# Altium schematic symbol library Teensy_3_and_LC_Series_Boards_v1.SCHLIB: 22 symbols
Pins are listed as number, name and electrical type; pins without a type are passive.

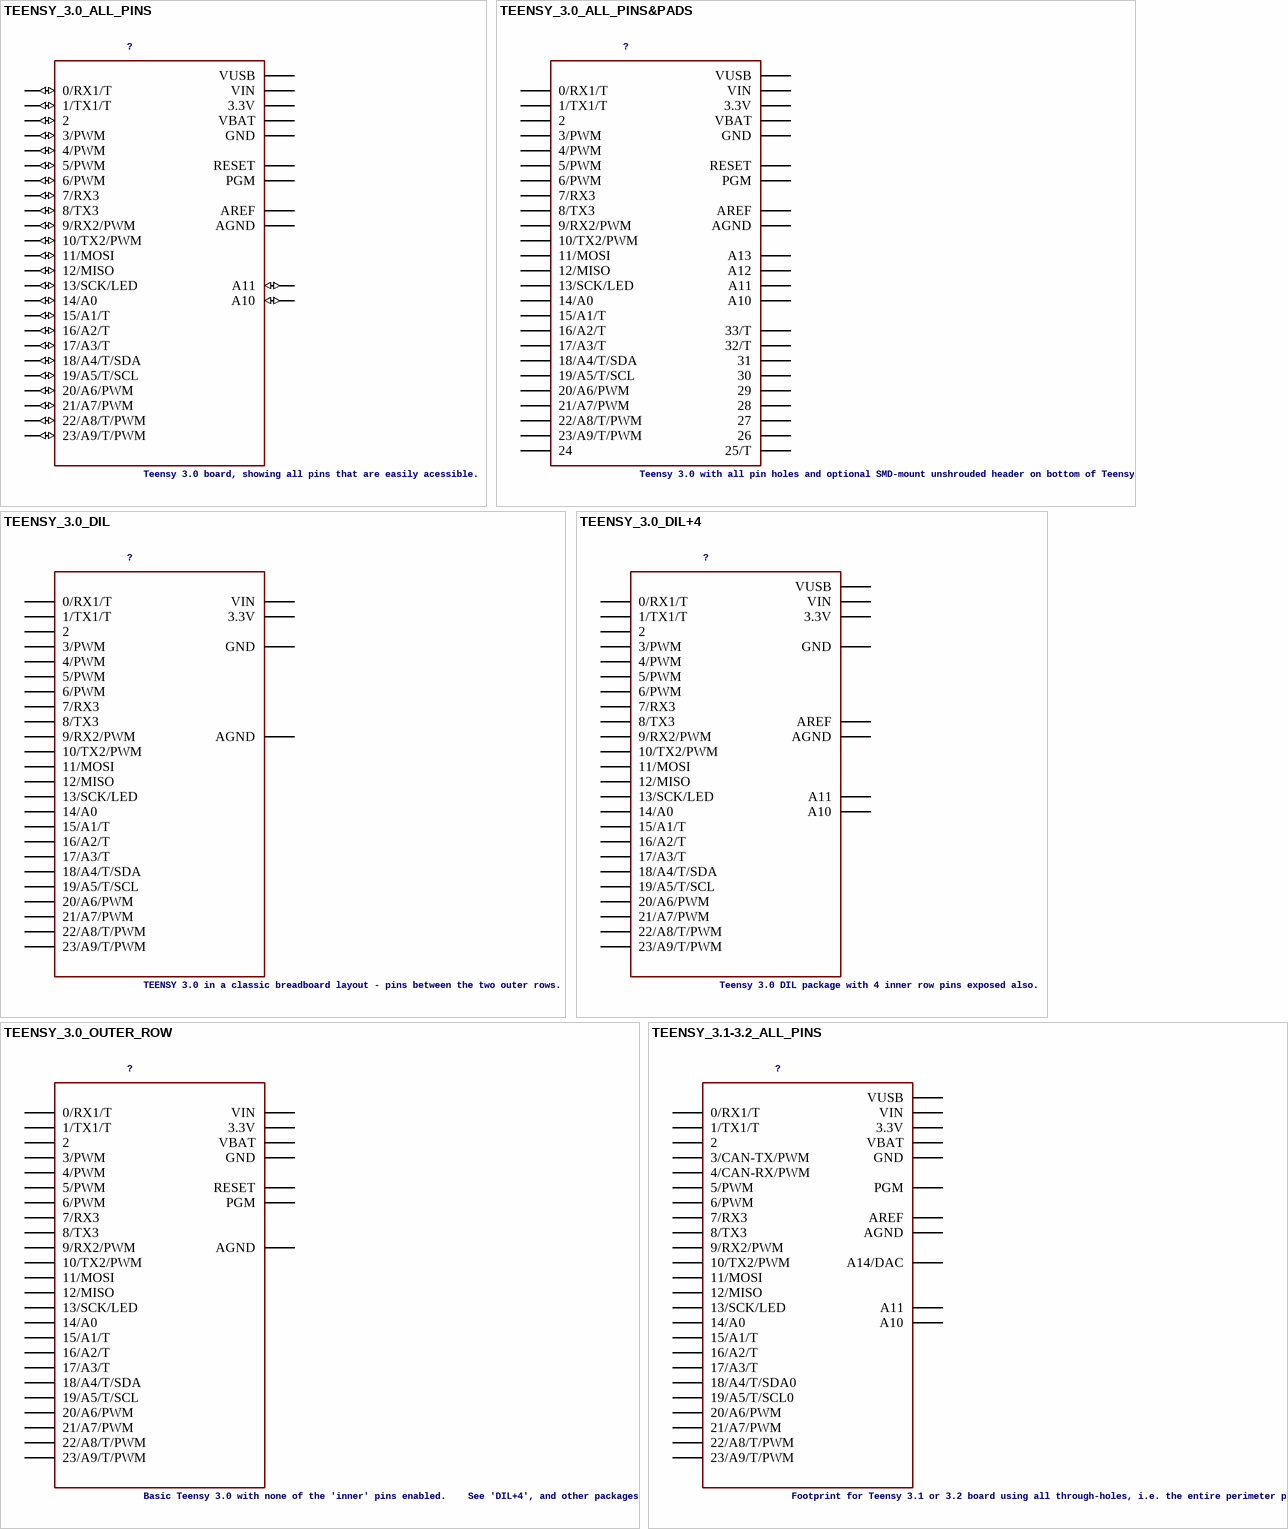
[diagram p0: symbols TEENSY_3.0_ALL_PINS to TEENSY_3.1-3.2_ALL_PINS]

## TEENSY_3.0_ALL_PINS
designator ?, comment Teensy 3.0 board, showing all pins that are easily acessible.
GateName_1: G$1; SymbolName_1: TEENSY_3.0_ALL_PINS; LibraryName: Teensy_3_and_LC_Series_Boards_v1.4; DeviceSetName: TEENSY_3.0_ALL_PINS
footprint TEENSY_3.0-3.2&LC_ALL_PINS
pins: 0 0/RX1/T (io), 1 1/TX1/T (io), 2 (io), 3 3/PWM (io), 3.3V 3.3V1 3.3V (power), 4 4/PWM (io), 5 5/PWM (io), 6 6/PWM (io), 7 7/RX3 (io), 8 8/TX3 (io), 9 9/RX2/PWM (io), 10 10/TX2/PWM (io), 11 11/MOSI (io), 12 12/MISO (io), 13 13/SCK/LED (io), 14/A0 (io), 15/A1 15/A1/T (io), 16/A2 16/A2/T (io), 17/A3 17/A3/T (io), 18/A4 18/A4/T/SDA (io), 19/A5 19/A5/T/SCL (io), 20/A6 20/A6/PWM (io), 21/A7 21/A7/PWM (io), 22/A8 22/A8/T/PWM (io), 23/A9 23/A9/T/PWM (io), A10 (io), A11 (io), AGND (power), AREF, GND GND1 GND (power), PGM, RESET/DAC RESET, VBAT (power), VIN (power), VUSB (power)

## TEENSY_3.0_ALL_PINS&PADS
designator ?, comment Teensy 3.0 with all pin holes and optional SMD-mount unshrouded header on bottom of Teensy 3.0.    Requires the installation of a un-shrouded SMD header on the underside of the Teensy 3.0
GateName_1: G$1; SymbolName_1: TEENSY_3.0_ALL_PINS_AND_PADS; DeviceSetName: TEENSY_3.0_ALL_PINS&PADS; LibraryName: Teensy_3_and_LC_Series_Boards_v1.4
footprint TEENSY_3.0-3.2_ALL_PINS_&_PADS
pins: 0 0/RX1/T, 1 1/TX1/T, 2, 3 3/PWM, 3.3V 3.3V1 3.3V2 3.3V (power), 4 4/PWM, 5 5/PWM, 6 6/PWM, 7 7/RX3, 8 8/TX3, 9 9/RX2/PWM, 10 10/TX2/PWM, 11 11/MOSI, 12 12/MISO, 13 13/SCK/LED, 14/A0, 15/A1 15/A1/T, 16/A2 16/A2/T, 17/A3 17/A3/T, 18/A4 18/A4/T/SDA, 19/A5 19/A5/T/SCL, 20/A6 20/A6/PWM, 21/A7 21/A7/PWM, 22/A8 22/A8/T/PWM, 23/A9 23/A9/T/PWM, 24, 25 25/T, 26, 27, 28, 29, 30, 31, 32 32/T, 33 33/T, A10, A11, A12, A13, AGND (power), AREF (power), GND GND1 GND2 GND (power), PGM, RESET/DAC RESET, VBAT (power), VIN (power), VUSB (power)

## TEENSY_3.0_DIL
designator ?, comment TEENSY 3.0 in a classic breadboard layout - pins between the two outer rows.
GateName_1: G$1; SymbolName_1: TEENSY_3.0_DIL; LibraryName: Teensy_3_and_LC_Series_Boards_v1.4; DeviceSetName: TEENSY_3.0_DIL
footprint TEENSY_3.0-3.2&LC_DIL
pins: 0 0/RX1/T, 1 1/TX1/T, 2, 3 3/PWM, 3.3V (power), 4 4/PWM, 5 5/PWM, 6 6/PWM, 7 7/RX3, 8 8/TX3, 9 9/RX2/PWM, 10 10/TX2/PWM, 11 11/MOSI, 12 12/MISO, 13 13/SCK/LED, 14/A0, 15/A1 15/A1/T, 16/A2 16/A2/T, 17/A3 17/A3/T, 18/A4 18/A4/T/SDA, 19/A5 19/A5/T/SCL, 20/A6 20/A6/PWM, 21/A7 21/A7/PWM, 22/A8 22/A8/T/PWM, 23/A9 23/A9/T/PWM, AGND (power), GND (power), VIN (power)

## TEENSY_3.0_DIL+4
designator ?, comment Teensy 3.0 DIL package with 4 inner row pins exposed also.
GateName_1: G$1; SymbolName_1: TEENSY_3.0_DIL+4; LibraryName: Teensy_3_and_LC_Series_Boards_v1.4; DeviceSetName: TEENSY_3.0_DIL+4
footprint TEENSY_3.0-3.2&LC_DIL+4
pins: 0 0/RX1/T, 1 1/TX1/T, 2, 3 3/PWM, 3.3V (power), 4 4/PWM, 5 5/PWM, 6 6/PWM, 7 7/RX3, 8 8/TX3, 9 9/RX2/PWM, 10 10/TX2/PWM, 11 11/MOSI, 12 12/MISO, 13 13/SCK/LED, 14/A0, 15/A1 15/A1/T, 16/A2 16/A2/T, 17/A3 17/A3/T, 18/A4 18/A4/T/SDA, 19/A5 19/A5/T/SCL, 20/A6 20/A6/PWM, 21/A7 21/A7/PWM, 22/A8 22/A8/T/PWM, 23/A9 23/A9/T/PWM, A10, A11, AGND (power), AREF (power), GND (power), VIN (power), VUSB (power)

## TEENSY_3.0_OUTER_ROW
designator ?, comment Basic Teensy 3.0 with none of the 'inner' pins enabled.    See 'DIL+4', and other packages for additional pin holes, as needed.
GateName_1: G$1; SymbolName_1: TEENSY_3.0_OUTER_ROW; LibraryName: Teensy_3_and_LC_Series_Boards_v1.4; DeviceSetName: TEENSY_3.0_OUTER_ROW
footprint TEENSY_3.0-3.2&LC_OUTER_ROW
pins: 0 0/RX1/T, 1 1/TX1/T, 2, 3 3/PWM, 3.3V 3.3V1 3.3V (power), 4 4/PWM, 5 5/PWM, 6 6/PWM, 7 7/RX3, 8 8/TX3, 9 9/RX2/PWM, 10 10/TX2/PWM, 11 11/MOSI, 12 12/MISO, 13 13/SCK/LED, 14/A0, 15/A1 15/A1/T, 16/A2 16/A2/T, 17/A3 17/A3/T, 18/A4 18/A4/T/SDA, 19/A5 19/A5/T/SCL, 20/A6 20/A6/PWM, 21/A7 21/A7/PWM, 22/A8 22/A8/T/PWM, 23/A9 23/A9/T/PWM, AGND (power), GND GND1 GND (power), PGM, RESET/DAC RESET, VBAT (power), VIN (power)

## TEENSY_3.1-3.2_ALL_PINS
designator ?, comment Footprint for Teensy 3.1 or 3.2 board using all through-holes, i.e. the entire perimeter plus the 4 through-holes inboard (A10,A11,AREF, VUSB)
GateName_1: G$1; SymbolName_1: TEENSY_3.1-3.2_ALL_PINS; LibraryName: Teensy_3_and_LC_Series_Boards_v1.4; DeviceSetName: TEENSY_3.1-3.2_ALL_PINS
footprint TEENSY_3.0-3.2&LC_ALL_PINS
pins: 0 0/RX1/T, 1 1/TX1/T, 2, 3 3/CAN-TX/PWM, 3.3V 3.3V1 3.3V (power), 4 4/CAN-RX/PWM, 5 5/PWM, 6 6/PWM, 7 7/RX3, 8 8/TX3, 9 9/RX2/PWM, 10 10/TX2/PWM, 11 11/MOSI, 12 12/MISO, 13 13/SCK/LED, 14/A0, 15/A1 15/A1/T, 16/A2 16/A2/T, 17/A3 17/A3/T, 18/A4 18/A4/T/SDA0, 19/A5 19/A5/T/SCL0, 20/A6 20/A6/PWM, 21/A7 21/A7/PWM, 22/A8 22/A8/T/PWM, 23/A9 23/A9/T/PWM, A10, A11, AGND (power), AREF (power), GND GND1 GND (power), PGM, RESET/DAC A14/DAC, VBAT (power), VIN (power), VUSB (power)

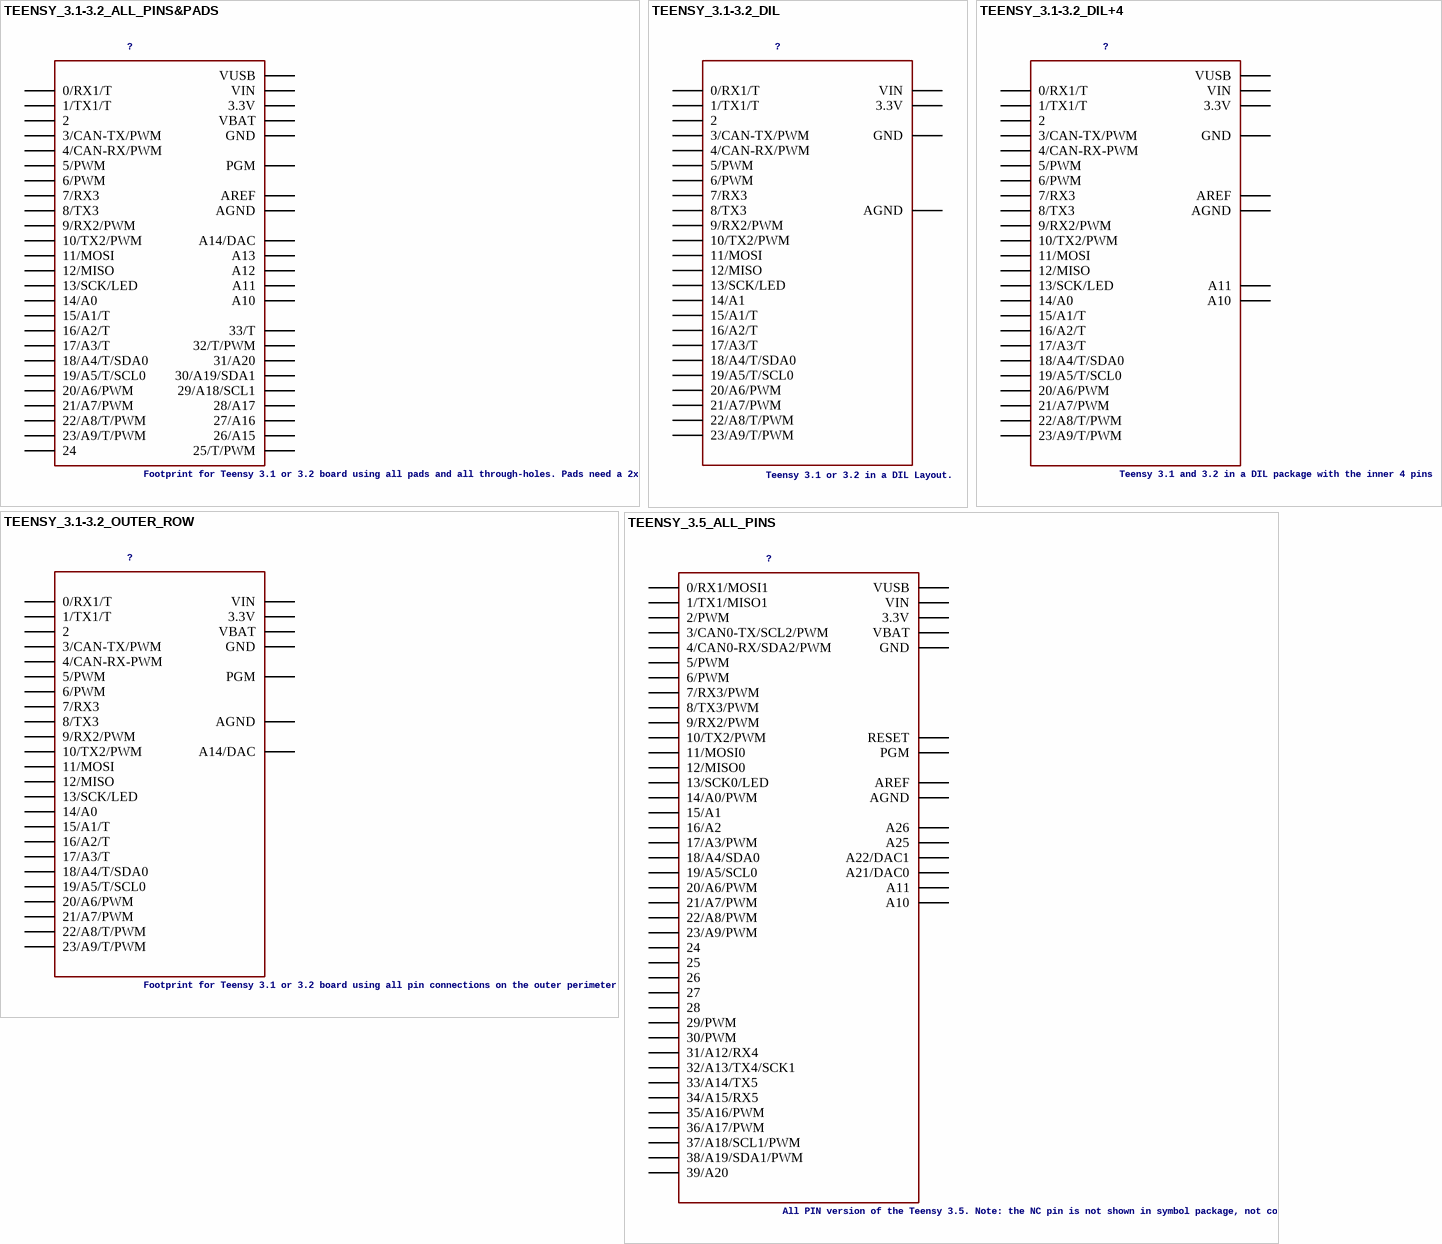
[diagram p1: symbols TEENSY_3.1-3.2_ALL_PINS&PADS to TEENSY_3.5_ALL_PINS]

## TEENSY_3.1-3.2_ALL_PINS&PADS
designator ?, comment Footprint for Teensy 3.1 or 3.2 board using all pads and all through-holes. Pads need a 2x7 0.1" SMD header.
GateName_1: G$1; SymbolName_1: TEENSY_3.1-3.2_ALL_PINS_AND_PADS; DeviceSetName: TEENSY_3.1-3.2_ALL_PINS&PADS; LibraryName: Teensy_3_and_LC_Series_Boards_v1.4
footprint TEENSY_3.0-3.2_ALL_PINS_&_PADS
pins: 0 0/RX1/T, 1 1/TX1/T, 2, 3 3/CAN-TX/PWM, 3.3V 3.3V1 3.3V2 3.3V (power), 4 4/CAN-RX/PWM, 5 5/PWM, 6 6/PWM, 7 7/RX3, 8 8/TX3, 9 9/RX2/PWM, 10 10/TX2/PWM, 11 11/MOSI, 12 12/MISO, 13 13/SCK/LED, 14/A0, 15/A1 15/A1/T, 16/A2 16/A2/T, 17/A3 17/A3/T, 18/A4 18/A4/T/SDA0, 19/A5 19/A5/T/SCL0, 20/A6 20/A6/PWM, 21/A7 21/A7/PWM, 22/A8 22/A8/T/PWM, 23/A9 23/A9/T/PWM, 24, 25 25/T/PWM, 26 26/A15, 27 27/A16, 28 28/A17, 29 29/A18/SCL1, 30 30/A19/SDA1, 31 31/A20, 32 32/T/PWM, 33 33/T, A10, A11, A12, A13, AGND (power), AREF (power), GND GND1 GND2 GND (power), PGM, RESET/DAC A14/DAC, VBAT (power), VIN (power), VUSB (power)

## TEENSY_3.1-3.2_DIL
designator ?, comment Teensy 3.1 or 3.2 in a DIL Layout.
GateName_1: G$1; SymbolName_1: TEENSY_3.1-3.2_DIL; LibraryName: Teensy_3_and_LC_Series_Boards_v1.4; DeviceSetName: TEENSY_3.1-3.2_DIL
footprint TEENSY_3.0-3.2&LC_DIL
pins: 0 0/RX1/T, 1 1/TX1/T, 2, 3 3/CAN-TX/PWM, 3.3V (power), 4 4/CAN-RX/PWM, 5 5/PWM, 6 6/PWM, 7 7/RX3, 8 8/TX3, 9 9/RX2/PWM, 10 10/TX2/PWM, 11 11/MOSI, 12 12/MISO, 13 13/SCK/LED, 14/A0 14/A1, 15/A1 15/A1/T, 16/A2 16/A2/T, 17/A3 17/A3/T, 18/A4 18/A4/T/SDA0, 19/A5 19/A5/T/SCL0, 20/A6 20/A6/PWM, 21/A7 21/A7/PWM, 22/A8 22/A8/T/PWM, 23/A9 23/A9/T/PWM, AGND (power), GND (power), VIN (power)

## TEENSY_3.1-3.2_DIL+4
designator ?, comment Teensy 3.1 and 3.2 in a DIL package with the inner 4 pins
GateName_1: G$1; SymbolName_1: TEENSY_3.1-3.2_DIL+4; LibraryName: Teensy_3_and_LC_Series_Boards_v1.4; DeviceSetName: TEENSY_3.1-3.2_DIL+4
footprint TEENSY_3.0-3.2&LC_DIL+4
pins: 0 0/RX1/T, 1 1/TX1/T, 2, 3 3/CAN-TX/PWM, 3.3V (power), 4 4/CAN-RX-PWM, 5 5/PWM, 6 6/PWM, 7 7/RX3, 8 8/TX3, 9 9/RX2/PWM, 10 10/TX2/PWM, 11 11/MOSI, 12 12/MISO, 13 13/SCK/LED, 14/A0, 15/A1 15/A1/T, 16/A2 16/A2/T, 17/A3 17/A3/T, 18/A4 18/A4/T/SDA0, 19/A5 19/A5/T/SCL0, 20/A6 20/A6/PWM, 21/A7 21/A7/PWM, 22/A8 22/A8/T/PWM, 23/A9 23/A9/T/PWM, A10, A11, AGND (power), AREF (power), GND (power), VIN (power), VUSB (power)

## TEENSY_3.1-3.2_OUTER_ROW
designator ?, comment Footprint for Teensy 3.1 or 3.2 board using all pin connections on the outer perimeter
GateName_1: G$1; SymbolName_1: TEENSY_3.1-3.2_OUTER_ROW; LibraryName: Teensy_3_and_LC_Series_Boards_v1.4; DeviceSetName: TEENSY_3.1-3.2_OUTER_ROW
footprint TEENSY_3.0-3.2&LC_OUTER_ROW
pins: 0 0/RX1/T, 1 1/TX1/T, 2, 3 3/CAN-TX/PWM, 3.3V 3.3V1 3.3V (power), 4 4/CAN-RX-PWM, 5 5/PWM, 6 6/PWM, 7 7/RX3, 8 8/TX3, 9 9/RX2/PWM, 10 10/TX2/PWM, 11 11/MOSI, 12 12/MISO, 13 13/SCK/LED, 14/A0, 15/A1 15/A1/T, 16/A2 16/A2/T, 17/A3 17/A3/T, 18/A4 18/A4/T/SDA0, 19/A5 19/A5/T/SCL0, 20/A6 20/A6/PWM, 21/A7 21/A7/PWM, 22/A8 22/A8/T/PWM, 23/A9 23/A9/T/PWM, AGND (power), GND GND1 GND (power), PGM, RESET/DAC A14/DAC, VBAT (power), VIN (power)

## TEENSY_3.5_ALL_PINS
designator ?, comment All PIN version of the Teensy 3.5. Note: the NC pin is not shown in symbol package, not connected here either.
GateName_1: G$1; SymbolName_1: TEENSY_3.5_ALL_PINS; LibraryName: Teensy_3_and_LC_Series_Boards_v1.4; DeviceSetName: TEENSY_3.5_ALL_PINS
footprint TEENSY_3.5_ALL_PINS
pins: 0 0/RX1/MOSI1, 1 1/TX1/MISO1, 2 2/PWM, 3 3/CAN0-TX/SCL2/PWM, 3.3V 3.3V3 3.3V4 3.3V (power), 4 4/CAN0-RX/SDA2/PWM, 5 5/PWM, 6 6/PWM, 7 7/RX3/PWM, 8 8/TX3/PWM, 9 9/RX2/PWM, 10 10/TX2/PWM, 11 11/MOSI0, 12 12/MISO0, 13 13/SCK0/LED, 14/A0 14/A0/PWM, 15/A1, 16/A2, 17/A3 17/A3/PWM, 18/A4 18/A4/SDA0, 19/A5 19/A5/SCL0, 20/A6 20/A6/PWM, 21/A7 21/A7/PWM, 22/A8 22/A8/PWM, 23/A9 23/A9/PWM, 24, 25, 26, 27, 28, 29 29/PWM, 30 30/PWM, 31/A12 31/A12/RX4, 32/A13 32/A13/TX4/SCK1, 33/A14 33/A14/TX5, 34/A15 34/A15/RX5, 35/A16 35/A16/PWM, 36/A17 36/A17/PWM, 37/A18 37/A18/SCL1/PWM, 38/A19 38/A19/SDA1/PWM, 39/A20, A10, A11, A21 A21/DAC0, A22 A22/DAC1, A25, A26, AGND (power), AREF (power), GND GND1 GND3 GND4 GND6 GND (power), PGM, RESET, VBAT (power), VIN (power), VUSB (power)

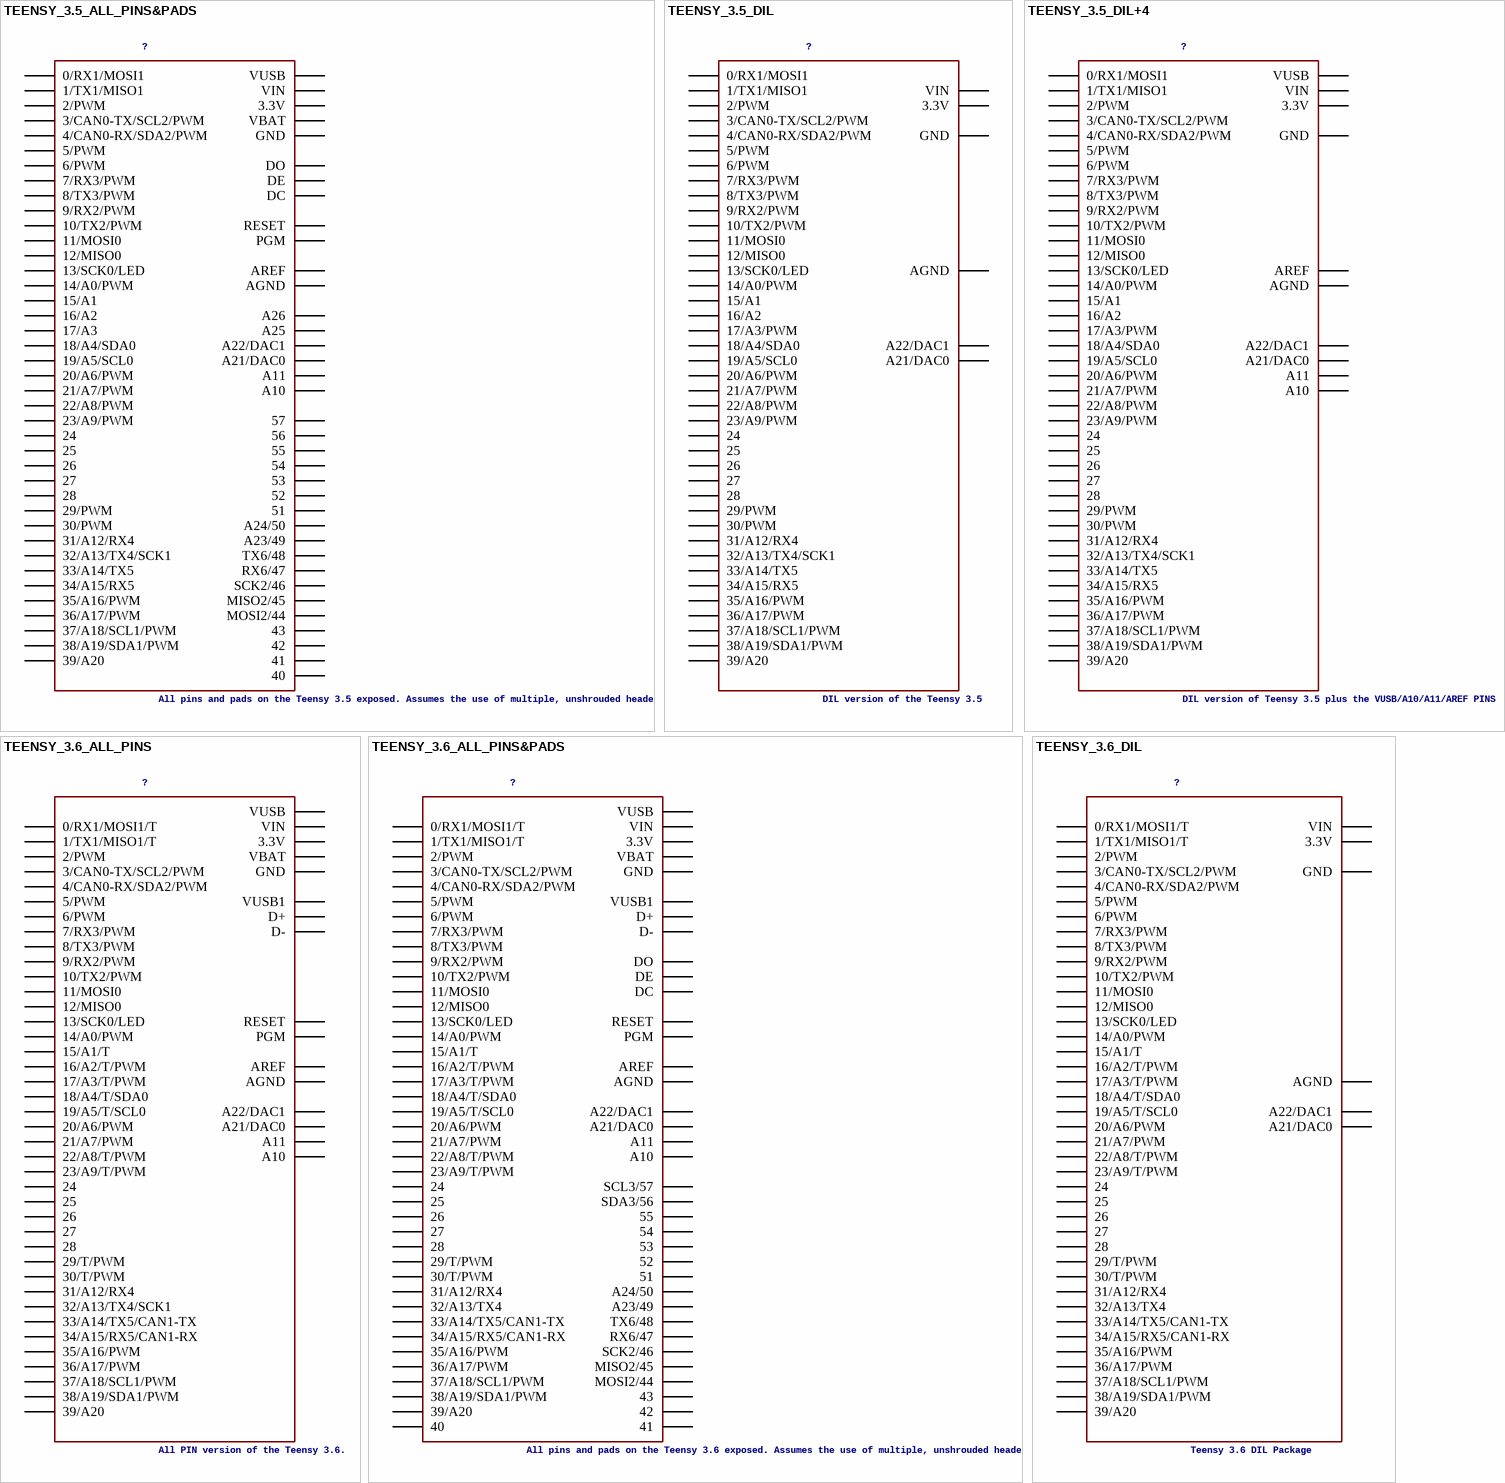
[diagram p2: symbols TEENSY_3.5_ALL_PINS&PADS to TEENSY_3.6_DIL]

## TEENSY_3.5_ALL_PINS&PADS
designator ?, comment All pins and pads on the Teensy 3.5 exposed. Assumes the use of multiple, unshrouded headers to get access to the pads on the underside of the Teensy These headers should be a 2x5, 2x4, and a 2x3 with a 0.1" hole spacing / pitch.
GateName_1: G$1; SymbolName_1: TEENSY_3.5_ALL_PINS_AND_PADS; DeviceSetName: TEENSY_3.5_ALL_PINS&PADS; LibraryName: Teensy_3_and_LC_Series_Boards_v1.4
footprint TEENSY_3.5_ALL_PINS&PADS
pins: 0 0/RX1/MOSI1, 1 1/TX1/MISO1, 2 2/PWM, 3 3/CAN0-TX/SCL2/PWM, 3.3V 3.3V2 3.3V3 3.3V4 3.3V (power), 4 4/CAN0-RX/SDA2/PWM, 5 5/PWM, 6 6/PWM, 7 7/RX3/PWM, 8 8/TX3/PWM, 9 9/RX2/PWM, 10 10/TX2/PWM, 11 11/MOSI0, 12 12/MISO0, 13 13/SCK0/LED, 14/A0 14/A0/PWM, 15/A1, 16/A2, 17/A3, 18/A4 18/A4/SDA0, 19/A5 19/A5/SCL0, 20/A6 20/A6/PWM, 21/A7 21/A7/PWM, 22/A8 22/A8/PWM, 23/A9 23/A9/PWM, 24, 25, 26, 27, 28, 29 29/PWM, 30 30/PWM, 31/A12 31/A12/RX4, 32/A13 32/A13/TX4/SCK1, 33/A14 33/A14/TX5, 34/A15 34/A15/RX5, 35/A16 35/A16/PWM, 36/A17 36/A17/PWM, 37/A18 37/A18/SCL1/PWM, 38/A19 38/A19/SDA1/PWM, 39/A20, 40, 41, 42, 43, 44 MOSI2/44, 45 MISO2/45, 46 SCK2/46, 47 RX6/47, 48 TX6/48, 49 A23/49, 50 A24/50, 51, 52, 53, 54, 55, 56, 57, A10, A11, A21 A21/DAC0, A22 A22/DAC1, A25, A26, AGND (power), AREF (power), DC, DE, DO, GND GND1 GND2 GND3 GND4 GND5 GND6 GND (power), PGM, RESET, VBAT (power), VIN (power), VUSB (power)

## TEENSY_3.5_DIL
designator ?, comment DIL version of the Teensy 3.5
GateName_1: G$1; SymbolName_1: TEENSY_3.5_DIL; LibraryName: Teensy_3_and_LC_Series_Boards_v1.4; DeviceSetName: TEENSY_3.5_DIL
footprint TEENSY_3.5_DIL
pins: 0 0/RX1/MOSI1, 1 1/TX1/MISO1, 2 2/PWM, 3 3/CAN0-TX/SCL2/PWM, 3.3V 3.3V3 3.3V (power), 4 4/CAN0-RX/SDA2/PWM, 5 5/PWM, 6 6/PWM, 7 7/RX3/PWM, 8 8/TX3/PWM, 9 9/RX2/PWM, 10 10/TX2/PWM, 11 11/MOSI0, 12 12/MISO0, 13 13/SCK0/LED, 14/A0 14/A0/PWM, 15/A1, 16/A2, 17/A3 17/A3/PWM, 18/A4 18/A4/SDA0, 19/A5 19/A5/SCL0, 20/A6 20/A6/PWM, 21/A7 21/A7/PWM, 22/A8 22/A8/PWM, 23/A9 23/A9/PWM, 24, 25, 26, 27, 28, 29 29/PWM, 30 30/PWM, 31/A12 31/A12/RX4, 32/A13 32/A13/TX4/SCK1, 33/A14 33/A14/TX5, 34/A15 34/A15/RX5, 35/A16 35/A16/PWM, 36/A17 36/A17/PWM, 37/A18 37/A18/SCL1/PWM, 38/A19 38/A19/SDA1/PWM, 39/A20, A21 A21/DAC0, A22 A22/DAC1, AGND (power), GND GND1 GND (power), VIN (power)

## TEENSY_3.5_DIL+4
designator ?, comment DIL version of Teensy 3.5 plus the VUSB/A10/A11/AREF PINS
GateName_1: G$1; SymbolName_1: TEENSY_3.5_DIL+4; LibraryName: Teensy_3_and_LC_Series_Boards_v1.4; DeviceSetName: TEENSY_3.5_DIL+4
footprint TEENSY_3.5_DIL+4
pins: 0 0/RX1/MOSI1, 1 1/TX1/MISO1, 2 2/PWM, 3 3/CAN0-TX/SCL2/PWM, 3.3V 3.3V3 3.3V (power), 4 4/CAN0-RX/SDA2/PWM, 5 5/PWM, 6 6/PWM, 7 7/RX3/PWM, 8 8/TX3/PWM, 9 9/RX2/PWM, 10 10/TX2/PWM, 11 11/MOSI0, 12 12/MISO0, 13 13/SCK0/LED, 14/A0 14/A0/PWM, 15/A1, 16/A2, 17/A3 17/A3/PWM, 18/A4 18/A4/SDA0, 19/A5 19/A5/SCL0, 20/A6 20/A6/PWM, 21/A7 21/A7/PWM, 22/A8 22/A8/PWM, 23/A9 23/A9/PWM, 24, 25, 26, 27, 28, 29 29/PWM, 30 30/PWM, 31/A12 31/A12/RX4, 32/A13 32/A13/TX4/SCK1, 33/A14 33/A14/TX5, 34/A15 34/A15/RX5, 35/A16 35/A16/PWM, 36/A17 36/A17/PWM, 37/A18 37/A18/SCL1/PWM, 38/A19 38/A19/SDA1/PWM, 39/A20, A10, A11, A21 A21/DAC0, A22 A22/DAC1, AGND (power), AREF (power), GND GND1 GND (power), VIN (power), VUSB (power)

## TEENSY_3.6_ALL_PINS
designator ?, comment All PIN version of the Teensy 3.6.
GateName_1: G$1; SymbolName_1: TEENSY_3.6_ALL_PINS; LibraryName: Teensy_3_and_LC_Series_Boards_v1.4; DeviceSetName: TEENSY_3.6_ALL_PINS
footprint TEENSY_3.6_ALL_PINS
pins: 0 0/RX1/MOSI1/T, 1 1/TX1/MISO1/T, 2 2/PWM, 3 3/CAN0-TX/SCL2/PWM, 3.3V 3.3V3 3.3V4 3.3V (power), 4 4/CAN0-RX/SDA2/PWM, 5 5/PWM, 6 6/PWM, 7 7/RX3/PWM, 8 8/TX3/PWM, 9 9/RX2/PWM, 10 10/TX2/PWM, 11 11/MOSI0, 12 12/MISO0, 13 13/SCK0/LED, 14/A0 14/A0/PWM, 15/A1 15/A1/T, 16/A2 16/A2/T/PWM, 17/A3 17/A3/T/PWM, 18/A4 18/A4/T/SDA0, 19/A5 19/A5/T/SCL0, 20/A6 20/A6/PWM, 21/A7 21/A7/PWM, 22/A8 22/A8/T/PWM, 23/A9 23/A9/T/PWM, 24, 25, 26, 27, 28, 29 29/T/PWM, 30 30/T/PWM, 31/A12 31/A12/RX4, 32/A13 32/A13/TX4/SCK1, 33/A14 33/A14/TX5/CAN1-TX, 34/A15 34/A15/RX5/CAN1-RX, 35/A16 35/A16/PWM, 36/A17 36/A17/PWM, 37/A18 37/A18/SCL1/PWM, 38/A19 38/A19/SDA1/PWM, 39/A20, A10, A11, A21 A21/DAC0, A22 A22/DAC1, AGND (power), AREF (power), D+, D-, GND GND1 GND3 GND4 GND6 GND (power), PGM, RESET, VBAT (power), VIN (power), VUSB (power), VUSB1 (power)

## TEENSY_3.6_ALL_PINS&PADS
designator ?, comment All pins and pads on the Teensy 3.6 exposed. Assumes the use of multiple, unshrouded headers to get access to the pads on the underside of the Teensy These headers should be a 2x5, 2x4, and a 2x3 with a 0.1" hole spacing / pitch.
GateName_1: G$1; SymbolName_1: TEENSY_3.6_ALL_PINS_AND_PADS; DeviceSetName: TEENSY_3.6_ALL_PINS&PADS; LibraryName: Teensy_3_and_LC_Series_Boards_v1.4
footprint TEENSY_3.6_ALL_PINS&PADS
pins: 0 0/RX1/MOSI1/T, 1 1/TX1/MISO1/T, 2 2/PWM, 3 3/CAN0-TX/SCL2/PWM, 3.3V 3.3V2 3.3V3 3.3V4 3.3V (power), 4 4/CAN0-RX/SDA2/PWM, 5 5/PWM, 6 6/PWM, 7 7/RX3/PWM, 8 8/TX3/PWM, 9 9/RX2/PWM, 10 10/TX2/PWM, 11 11/MOSI0, 12 12/MISO0, 13 13/SCK0/LED, 14/A0 14/A0/PWM, 15/A1 15/A1/T, 16/A2 16/A2/T/PWM, 17/A3 17/A3/T/PWM, 18/A4 18/A4/T/SDA0, 19/A5 19/A5/T/SCL0, 20/A6 20/A6/PWM, 21/A7 21/A7/PWM, 22/A8 22/A8/T/PWM, 23/A9 23/A9/T/PWM, 24, 25, 26, 27, 28, 29 29/T/PWM, 30 30/T/PWM, 31/A12 31/A12/RX4, 32/A13 32/A13/TX4, 33/A14 33/A14/TX5/CAN1-TX, 34/A15 34/A15/RX5/CAN1-RX, 35/A16 35/A16/PWM, 36/A17 36/A17/PWM, 37/A18 37/A18/SCL1/PWM, 38/A19 38/A19/SDA1/PWM, 39/A20, 40, 41, 42, 43, 44 MOSI2/44, 45 MISO2/45, 46 SCK2/46, 47 RX6/47, 48 TX6/48, 49 A23/49, 50 A24/50, 51, 52, 53, 54, 55, 56 SDA3/56, 57 SCL3/57, A10, A11, A21 A21/DAC0, A22 A22/DAC1, AGND (power), AREF (power), D+, D-, DC, DE, DO, GND GND1 GND2 GND3 GND4 GND5 GND6 GND (power), PGM, RESET, VBAT (power), VIN (power), VUSB (power), VUSB1 (power)

## TEENSY_3.6_DIL
designator ?, comment Teensy 3.6 DIL Package
GateName_1: G$1; SymbolName_1: TEENSY_3.6_DIL; LibraryName: Teensy_3_and_LC_Series_Boards_v1.4; DeviceSetName: TEENSY_3.6_DIL
footprint TEENSY_3.6_DIL
pins: 0 0/RX1/MOSI1/T, 1 1/TX1/MISO1/T, 2 2/PWM, 3 3/CAN0-TX/SCL2/PWM, 3.3V 3.3V3 3.3V (power), 4 4/CAN0-RX/SDA2/PWM, 5 5/PWM, 6 6/PWM, 7 7/RX3/PWM, 8 8/TX3/PWM, 9 9/RX2/PWM, 10 10/TX2/PWM, 11 11/MOSI0, 12 12/MISO0, 13 13/SCK0/LED, 14/A0 14/A0/PWM, 15/A1 15/A1/T, 16/A2 16/A2/T/PWM, 17/A3 17/A3/T/PWM, 18/A4 18/A4/T/SDA0, 19/A5 19/A5/T/SCL0, 20/A6 20/A6/PWM, 21/A7 21/A7/PWM, 22/A8 22/A8/T/PWM, 23/A9 23/A9/T/PWM, 24, 25, 26, 27, 28, 29 29/T/PWM, 30 30/T/PWM, 31/A12 31/A12/RX4, 32/A13 32/A13/TX4, 33/A14 33/A14/TX5/CAN1-TX, 34/A15 34/A15/RX5/CAN1-RX, 35/A16 35/A16/PWM, 36/A17 36/A17/PWM, 37/A18 37/A18/SCL1/PWM, 38/A19 38/A19/SDA1/PWM, 39/A20, A21 A21/DAC0, A22 A22/DAC1, AGND (power), GND GND1 GND (power), VIN (power)

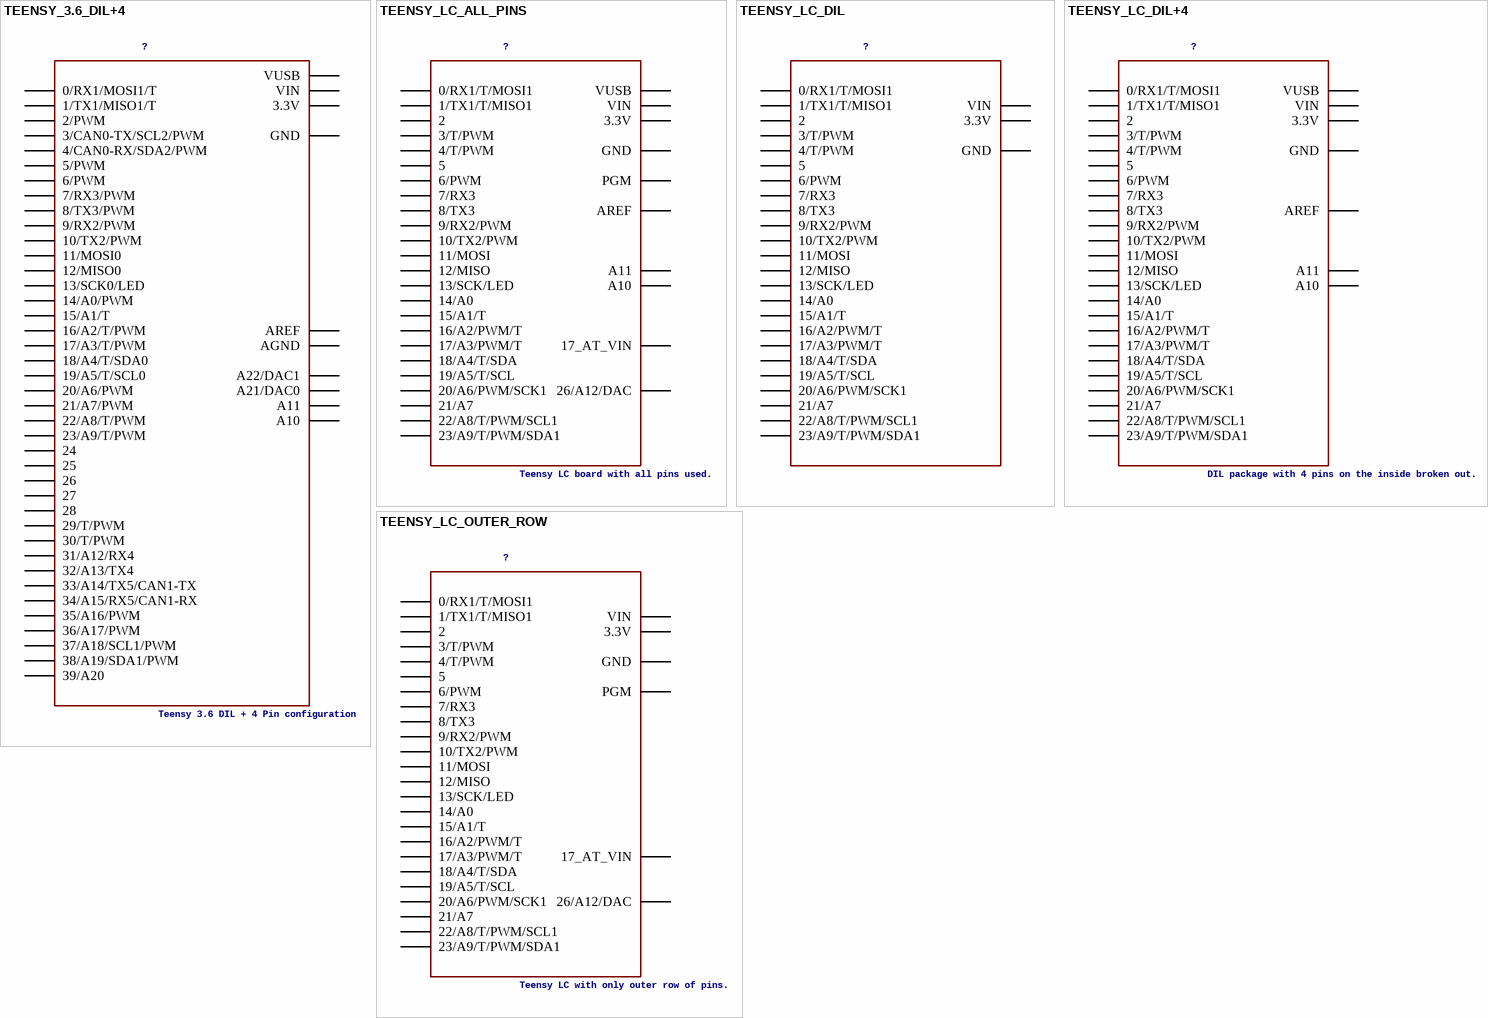
[diagram p3: symbols TEENSY_3.6_DIL+4 to TEENSY_LC_OUTER_ROW]

## TEENSY_3.6_DIL+4
designator ?, comment Teensy 3.6 DIL + 4 Pin configuration
GateName_1: G$1; SymbolName_1: TEENSY_3.6_DIL+4; LibraryName: Teensy_3_and_LC_Series_Boards_v1.4; DeviceSetName: TEENSY_3.6_DIL+4
footprint TEENSY_3.6_DIL+4
pins: 0 0/RX1/MOSI1/T, 1 1/TX1/MISO1/T, 2 2/PWM, 3 3/CAN0-TX/SCL2/PWM, 3.3V 3.3V3 3.3V (power), 4 4/CAN0-RX/SDA2/PWM, 5 5/PWM, 6 6/PWM, 7 7/RX3/PWM, 8 8/TX3/PWM, 9 9/RX2/PWM, 10 10/TX2/PWM, 11 11/MOSI0, 12 12/MISO0, 13 13/SCK0/LED, 14/A0 14/A0/PWM, 15/A1 15/A1/T, 16/A2 16/A2/T/PWM, 17/A3 17/A3/T/PWM, 18/A4 18/A4/T/SDA0, 19/A5 19/A5/T/SCL0, 20/A6 20/A6/PWM, 21/A7 21/A7/PWM, 22/A8 22/A8/T/PWM, 23/A9 23/A9/T/PWM, 24, 25, 26, 27, 28, 29 29/T/PWM, 30 30/T/PWM, 31/A12 31/A12/RX4, 32/A13 32/A13/TX4, 33/A14 33/A14/TX5/CAN1-TX, 34/A15 34/A15/RX5/CAN1-RX, 35/A16 35/A16/PWM, 36/A17 36/A17/PWM, 37/A18 37/A18/SCL1/PWM, 38/A19 38/A19/SDA1/PWM, 39/A20, A10, A11, A21 A21/DAC0, A22 A22/DAC1, AGND (power), AREF (power), GND GND1 GND (power), VIN (power), VUSB (power)

## TEENSY_LC_ALL_PINS
designator ?, comment Teensy LC board with all pins used.
GateName_1: G$1; SymbolName_1: TEENSY_LC_ALL_PINS; LibraryName: Teensy_3_and_LC_Series_Boards_v1.4; DeviceSetName: TEENSY_LC_ALL_PINS
footprint TEENSY_3.0-3.2&LC_ALL_PINS
pins: 0 0/RX1/T/MOSI1, 1 1/TX1/T/MISO1, 2, 3 3/T/PWM, 3.3V 3.3V1 3.3V (power), 4 4/T/PWM, 5, 6 6/PWM, 7 7/RX3, 8 8/TX3, 9 9/RX2/PWM, 10 10/TX2/PWM, 11 11/MOSI, 12 12/MISO, 13 13/SCK/LED, 14/A0, 15/A1 15/A1/T, 16/A2 16/A2/PWM/T, 17/A3 17/A3/PWM/T, 18/A4 18/A4/T/SDA, 19/A5 19/A5/T/SCL, 20/A6 20/A6/PWM/SCK1, 21/A7, 22/A8 22/A8/T/PWM/SCL1, 23/A9 23/A9/T/PWM/SDA1, A10, A11, AGND GND GND1 GND (power), AREF (power), PGM, RESET/DAC 26/A12/DAC (power), VBAT 17_AT_VIN, VIN (power), VUSB (power)

## TEENSY_LC_DIL
designator ?
GateName_1: G$1; SymbolName_1: TEENSY_LC_DIL; LibraryName: Teensy_3_and_LC_Series_Boards_v1.4; DeviceSetName: TEENSY_LC_DIL
footprint TEENSY_3.0-3.2&LC_DIL
pins: 0 0/RX1/T/MOSI1, 1 1/TX1/T/MISO1, 2, 3 3/T/PWM, 3.3V (power), 4 4/T/PWM, 5, 6 6/PWM, 7 7/RX3, 8 8/TX3, 9 9/RX2/PWM, 10 10/TX2/PWM, 11 11/MOSI, 12 12/MISO, 13 13/SCK/LED, 14/A0, 15/A1 15/A1/T, 16/A2 16/A2/PWM/T, 17/A3 17/A3/PWM/T, 18/A4 18/A4/T/SDA, 19/A5 19/A5/T/SCL, 20/A6 20/A6/PWM/SCK1, 21/A7, 22/A8 22/A8/T/PWM/SCL1, 23/A9 23/A9/T/PWM/SDA1, AGND GND GND (power), VIN (power)

## TEENSY_LC_DIL+4
designator ?, comment DIL package with 4 pins on the inside broken out.
GateName_1: G$1; SymbolName_1: TEENSY_LC_DIL+4; LibraryName: Teensy_3_and_LC_Series_Boards_v1.4; DeviceSetName: TEENSY_LC_DIL+4
footprint TEENSY_3.0-3.2&LC_DIL+4
pins: 0 0/RX1/T/MOSI1, 1 1/TX1/T/MISO1, 2, 3 3/T/PWM, 3.3V (power), 4 4/T/PWM, 5, 6 6/PWM, 7 7/RX3, 8 8/TX3, 9 9/RX2/PWM, 10 10/TX2/PWM, 11 11/MOSI, 12 12/MISO, 13 13/SCK/LED, 14/A0, 15/A1 15/A1/T, 16/A2 16/A2/PWM/T, 17/A3 17/A3/PWM/T, 18/A4 18/A4/T/SDA, 19/A5 19/A5/T/SCL, 20/A6 20/A6/PWM/SCK1, 21/A7, 22/A8 22/A8/T/PWM/SCL1, 23/A9 23/A9/T/PWM/SDA1, A10, A11, AGND GND GND (power), AREF (power), VIN (power), VUSB (power)

## TEENSY_LC_OUTER_ROW
designator ?, comment Teensy LC with only outer row of pins.
GateName_1: G$1; SymbolName_1: TEENSY_LC_OUTER_ROW; LibraryName: Teensy_3_and_LC_Series_Boards_v1.4; DeviceSetName: TEENSY_LC_OUTER_ROW
footprint TEENSY_3.0-3.2&LC_OUTER_ROW
pins: 0 0/RX1/T/MOSI1, 1 1/TX1/T/MISO1, 2, 3 3/T/PWM, 3.3V 3.3V1 3.3V (power), 4 4/T/PWM, 5, 6 6/PWM, 7 7/RX3, 8 8/TX3, 9 9/RX2/PWM, 10 10/TX2/PWM, 11 11/MOSI, 12 12/MISO, 13 13/SCK/LED, 14/A0, 15/A1 15/A1/T, 16/A2 16/A2/PWM/T, 17/A3 17/A3/PWM/T, 18/A4 18/A4/T/SDA, 19/A5 19/A5/T/SCL, 20/A6 20/A6/PWM/SCK1, 21/A7, 22/A8 22/A8/T/PWM/SCL1, 23/A9 23/A9/T/PWM/SDA1, AGND GND GND1 GND (power), PGM, RESET/DAC 26/A12/DAC (power), VBAT 17_AT_VIN, VIN (power)